# EAGLE library part SSM6N7002KFU (library signpost)
NFET ARRAY2
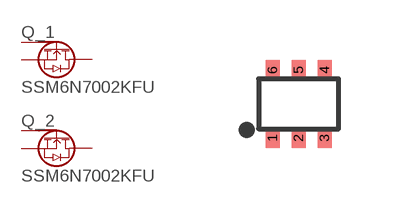
[diagram p8: symbol with the pads of 1-2T1S; footprint 1-2T1S]

Designator prefix Q; gates _1=NFET _2=NFET

## SSM6N7002KFU  [1-2T1S]
1  _1:S
2  _1:G
3  _2:D
4  _2:S
5  _2:G
6  _1:D

## Footprint 1-2T1S (pad centres in mm)
smd 0.35 x 0.5: 1 -0.65,-0.85; 2 0,-0.85; 3 0.65,-0.85; 4 0.65,0.85; 5 0,0.85; 6 -0.65,0.85